# Altium footprint library CAPRR750W60L1260T750H1550.PcbLib: 1 footprints
Each footprint in its own frame and in the unit in brackets; x right, y up, seen from the top. Pads: shape width x height; smd on the part's side, far side on the other; paste and mask are expansions set on the pad; w line width, h text height; cw(c..) or ccw(c..) is an arc to the next point about the centre after c.
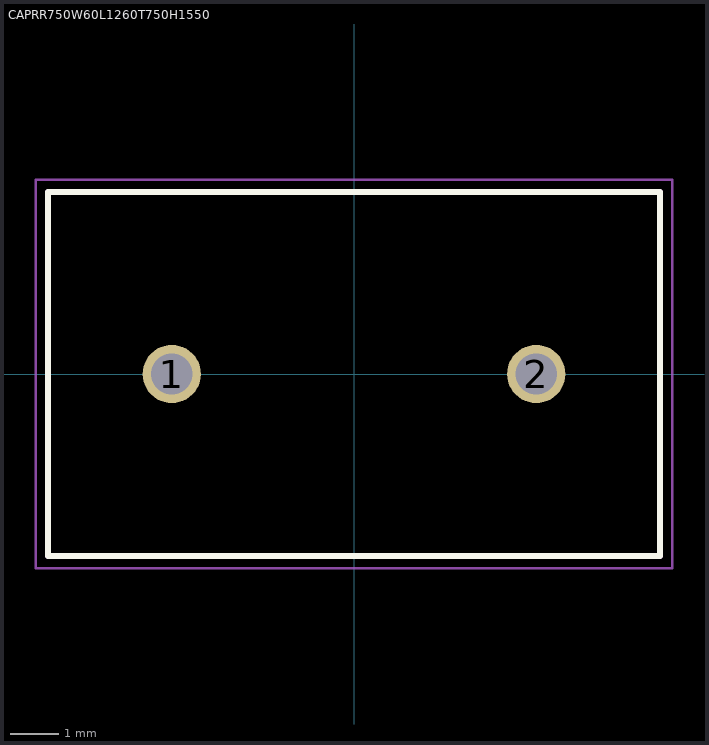
[diagram p0: the footprint, top view; thin cyan lines are the x and y axes]

## CAPRR750W60L1260T750H1550 [mm]
pads (2):
  round 1.2 hole 0.85: 1(-3.75,0) 2(3.75,0)
Top Overlay:
  lines w0.127: -6.3,-3.75 6.3,-3.75 6.3,3.75 -6.3,3.75 -6.3,-3.75
Mechanical 13:
  lines w0.127: -6.3,-3.75 -6.3,3.75 6.3,3.75 6.3,-3.75 -6.3,-3.75
Mechanical 15:
  lines w0.05: -6.55,-4 -6.55,4 6.55,4 6.55,-4 -6.55,-4